# Altium footprint library 2604-1108.PcbLib: 1 footprints
Each footprint in its own frame and in the unit in brackets; x right, y up, seen from the top. Pads: shape width x height; smd on the part's side, far side on the other; paste and mask are expansions set on the pad; w line width, h text height; cw(c..) or ccw(c..) is an arc to the next point about the centre after c.
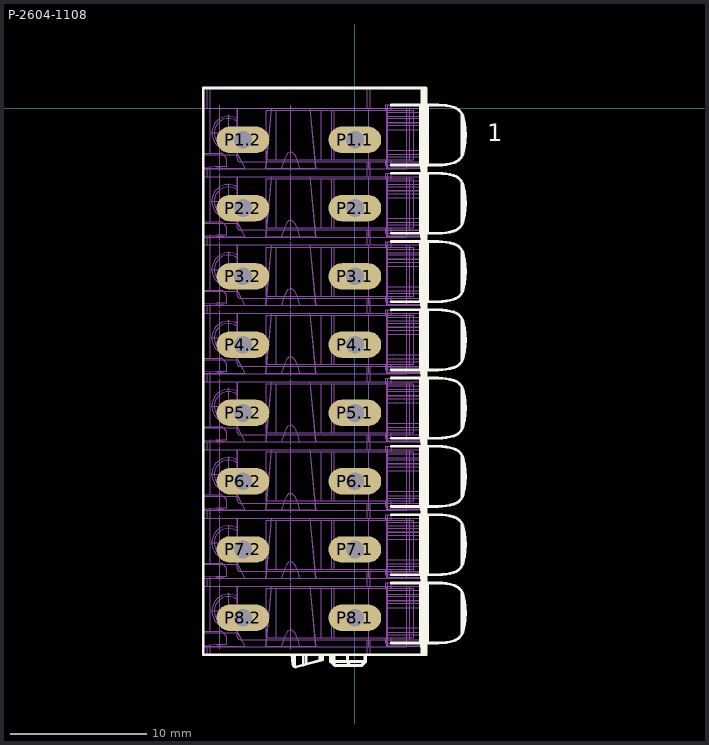
[diagram p0: the footprint, top view; thin cyan lines are the x and y axes]

## P-2604-1108 [mm]
pads (16):
  oval 3.861x1.93 hole 1.3: P1.1(0,-2.3) P1.2(-8.2,-2.3) P2.1(0,-7.3) P2.2(-8.2,-7.3) P3.1(0,-12.3) P3.2(-8.2,-12.3) P4.1(0,-17.3) P4.2(-8.2,-17.3) P5.1(0,-22.3) P5.2(-8.2,-22.3) P6.1(0,-27.3) P6.2(-8.2,-27.3) P7.1(0,-32.3) P7.2(-8.2,-32.3) P8.1(0,-37.3) P8.2(-8.2,-37.3)
Top Overlay:
  drawing of 314 lines, arcs and shapes, not listed
  text "1" at 9.7,-2.4 h1.27
Mechanical 13:
  drawing of 975 lines, arcs and shapes, not listed